# Altium schematic symbol library LED_BLU_RED.Schlib: 1 symbol
Pins are listed as number, name and electrical type; pins without a type are passive.

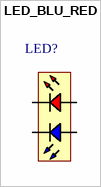
[diagram p0: symbol LED_BLU_RED]

## LED_BLU_RED
designator LED?  (value not drawn)
pins: 1 A, 2 K, 3 A, 4 K
1 alternate drawing of the same symbol